# Altium schematic symbol library Kurs.schlib: 27 symbols
Pins are listed as number, name and electrical type; pins without a type are passive.

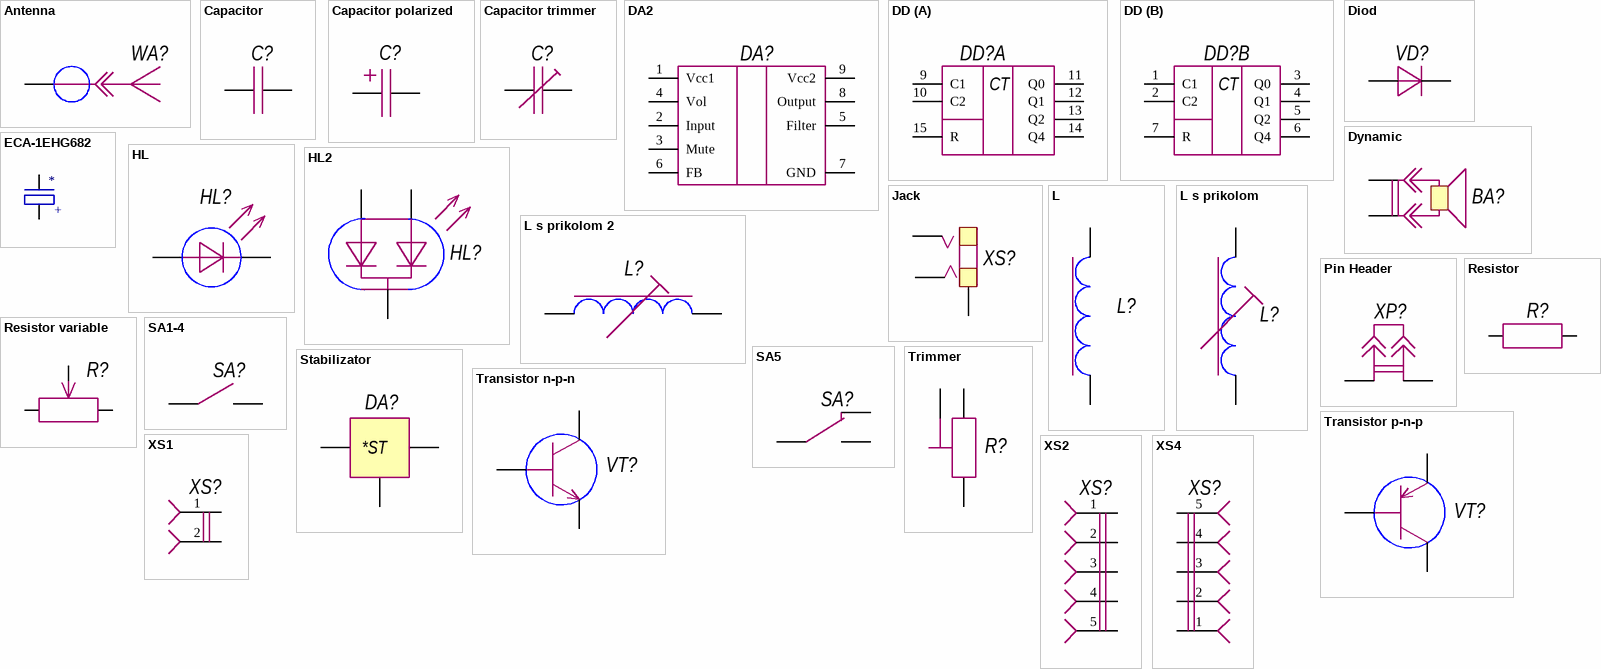
[diagram p0: symbols Antenna to XS4]

## Antenna
designator WA?  (value not drawn)
3d: https://www.3dcontentcentral.com/secure/download-model.aspx?catalogid=171&id=12170; HelpURL: https://www.chipdip.ru/product/gsa-1141
footprint SMA
pins: 1

## Capacitor
designator C?  (value not drawn)
Value: *
footprint C 1206
pins: 1, 2

## Capacitor polarized
designator C?  (value not drawn)
Value: *
footprint C polar
pins: 1, 2

## Capacitor trimmer
designator C?  (value not drawn)
Value: *; HelpURL: https://www.westfloridacomponents.com/TC003PE01/7pF-50pF+SMT+Chip+Trimmer+Capacitor+TZBX4R500BB110T00.html
footprint C trimmer
pins: 1, 2

## DA2
designator DA?, comment AN5265  (value not drawn)
Model: AN5265
footprint an5265
pins: 1 Vcc1, 2 Input, 3 Mute, 4 Vol, 5 Filter, 6 FB, 7 GND, 8 Output, 9 Vcc2

## DD
designator DD?  (value not drawn)
Model: *
footprint cd4520bm
pins on every part: 8 (power) hidden to gnd, 16 (power) hidden to Vcc
part A pins: 9 C1, 10 C2, 11 Q0, 12 Q1, 13 Q2, 14 Q4, 15 R
part B pins: 1 C1, 2 C2, 3 Q0, 4 Q1, 5 Q2, 6 Q4, 7 R
part A text: CT
part B text: CT

## Diod
designator VD?  (value not drawn)
Model: *
footprint VD 1N4148
pins: 1, 2

## Dynamic
designator BA?  (value not drawn)
footprint for BA
pins: 1, 2

## ECA-1EHG682
designator ?
6800ÂµF 25V Aluminum Electrolytic Capacitors Radial, Can 2000 Hrs @ 105Â°C; MP: ECA-1EHG682; MF: Panasonic; Package: Radial Panasonic; Price: None; Availability: Unavailable; Value: *; SnapEDA_Link: https://www.snapeda.com/parts/ECA-1EHG682/Panasonic%20Electronic%20Components/view-part/233456/?ref=snap
footprint E7,5-18
pins: NEG, POS
text: +

## HL
designator HL?  (value not drawn)
Model: *
footprint hl1
pins: 1, 2

## HL2
designator HL?  (value not drawn)
Model: *
footprint hl2
pins: 1, 2, 3

## Jack
designator XS?  (value not drawn)
footprint Lumberg 1501 03 (2.5mm 3-pin Jack)
pins: 1, 2, 3

## L
designator L?  (value not drawn)
Value: *
footprint l3 IPC-7351 Chip Inductor
pins: 1, 2

## L s prikolom
designator L?  (value not drawn)
footprint L trimmer coilcraft 164
pins: 1, 2

## L s prikolom 2
designator L?  (value not drawn)
footprint L trimmer coilcraft 164
pins: 1, 2

## Pin Header
designator XP?  (value not drawn)
HelpURL: https://www.chipdip.by/product/pld-10
footprint PIN Header
pins: 1, 2

## Resistor
designator R?  (value not drawn)
Value: *; Case: *
footprint R 0805
pins: 1, 2

## Resistor variable
designator R?  (value not drawn)
Value: *
footprint 9mm Rotary Potentiometer
pins: 1, 2, 3

## SA1-4
designator SA?  (value not drawn)
footprint SWITCH
pins: 1, 2

## SA5
designator SA?  (value not drawn)
footprint SWITCH
pins: 1, 2, 3

## Stabilizator
designator DA?  (value not drawn)
Model: *
footprint 7809
pins: 1, 2, 3
text: *ST

## Transistor n-p-n
designator VT?  (value not drawn)
Value: *; Model: *
footprint transistors bc847
pins: 1, 2, 3

## Transistor p-n-p
designator VT?  (value not drawn)
Model: *
footprint transistors bc847
pins: 1, 2, 3

## Trimmer
designator R?  (value not drawn)
Value: *
footprint ST-5EW Vishay 6MM CERMET Trimmer
pins: 1, 2, 3

## XS1
designator XS?  (value not drawn)
footprint Power socket
pins: 1, 2

## XS2
designator XS?  (value not drawn)
footprint Input for DN-5BJ1
pins: 1, 2, 3, 4, 5

## XS4
designator XS?  (value not drawn)
footprint Input for DN-5BJ1
pins: 1, 2, 3, 4, 5